# EAGLE library part SOCKETY_WP75XXX (library sierra wireless)
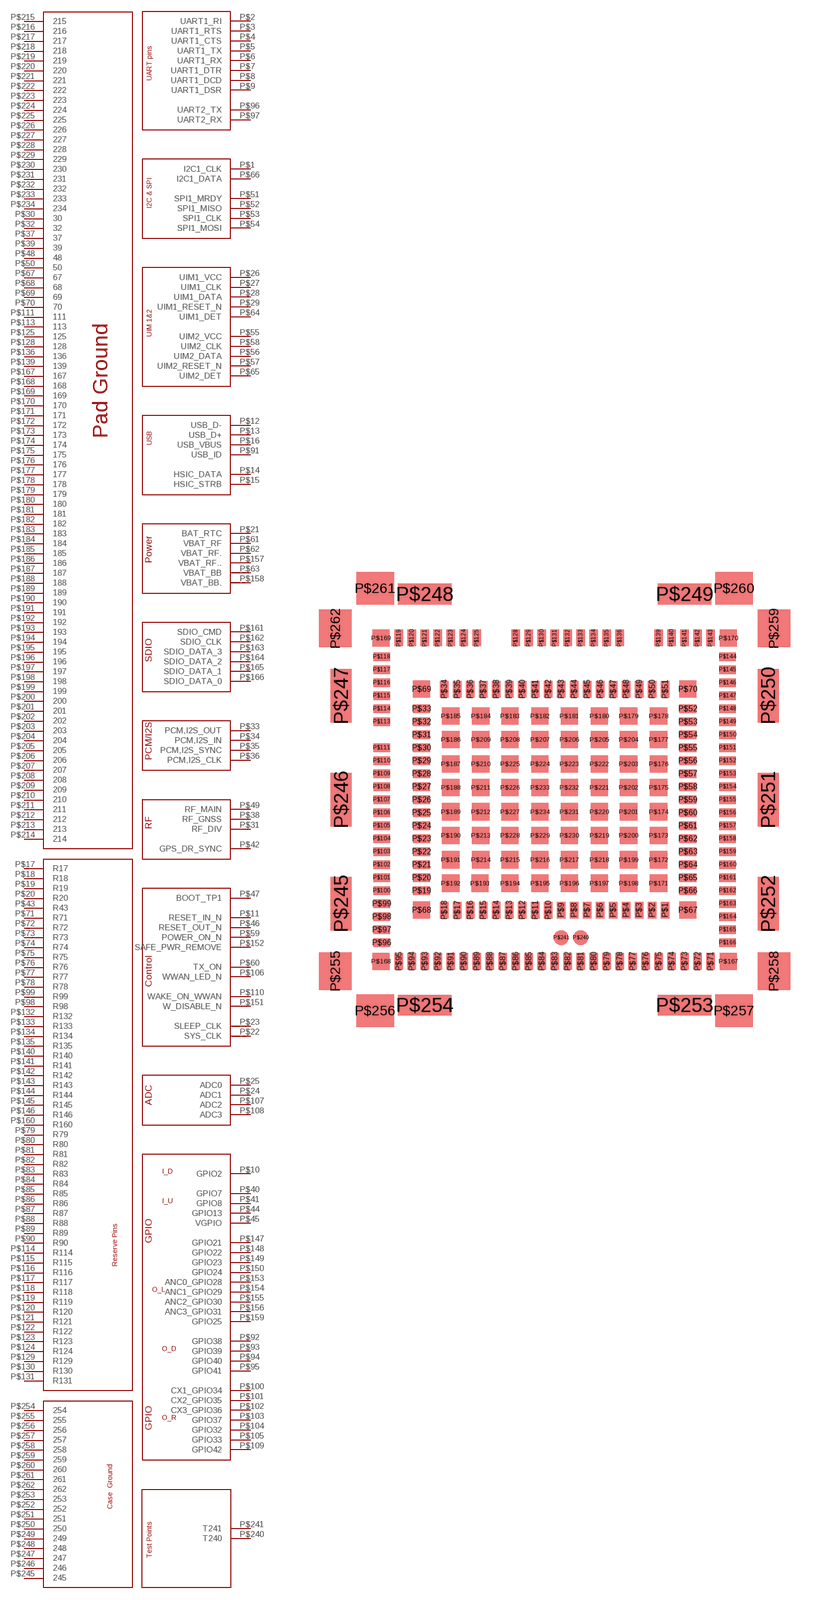
[diagram p0: symbol with the pads of SOCKET_WP75XX; footprint SOCKET_WP75XX]

Designator prefix -

## SOCKETY_WP75XXX  [SOCKET_WP75XX]
P$1  I2C1_CLK
P$2  UART1_RI
P$3  UART1_RTS
P$4  UART1_CTS
P$5  UART1_TX
P$6  UART1_RX
P$7  UART1_DTR
P$8  UART1_DCD
P$9  UART1_DSR
P$10  GPIO2
P$11  RESET_IN_N
P$12  USB_D-
P$13  USB_D+
P$14  HSIC_DATA
P$15  HSIC_STRB
P$16  USB_VBUS
P$17  R17
P$18  R18
P$19  R19
P$20  R20
P$21  BAT_RTC
P$22  SYS_CLK
P$23  SLEEP_CLK
P$24  ADC1
P$25  ADC0
P$26  UIM1_VCC
P$27  UIM1_CLK
P$28  UIM1_DATA
P$29  UIM1_RESET_N
P$30  30
P$31  RF_DIV
P$32  32
P$33  PCM,I2S_OUT
P$34  PCM,I2S_IN
P$35  PCM,I2S_SYNC
P$36  PCM,I2S_CLK
P$37  37
P$38  RF_GNSS
P$39  39
P$40  GPIO7
P$41  GPIO8
P$42  GPS_DR_SYNC
P$43  R43
P$44  GPIO13
P$45  VGPIO
P$46  RESET_OUT_N
P$47  BOOT_TP1
P$48  48
P$49  RF_MAIN
P$50  50
P$51  SPI1_MRDY
P$52  SPI1_MISO
P$53  SPI1_CLK
P$54  SPI1_MOSI
P$55  UIM2_VCC
P$56  UIM2_DATA
P$57  UIM2_RESET_N
P$58  UIM2_CLK
P$59  POWER_ON_N
P$60  TX_ON
P$61  VBAT_RF
P$62  VBAT_RF.
P$63  VBAT_BB
P$64  UIM1_DET
P$65  UIM2_DET
P$66  I2C1_DATA
P$67  67
P$68  68
P$69  69
P$70  70
P$71  R71
P$72  R72
P$73  R73
P$74  R74
P$75  R75
P$76  R76
P$77  R77
P$78  R78
P$79  R79
P$80  R80
P$81  R81
P$82  R82
P$83  R83
P$84  R84
P$85  R85
P$86  R86
P$87  R87
P$88  R88
P$89  R89
P$90  R90
P$91  USB_ID
P$92  GPIO38
P$93  GPIO39
P$94  GPIO40
P$95  GPIO41
P$96  UART2_TX
P$97  UART2_RX
P$98  R98
P$99  R99
P$100  CX1_GPIO34
P$101  CX2_GPIO35
P$102  CX3_GPIO36
P$103  GPIO37
P$104  GPIO32
P$105  GPIO33
P$106  WWAN_LED_N
P$107  ADC2
P$108  ADC3
P$109  GPIO42
P$110  WAKE_ON_WWAN
P$111  111
P$113  113
P$114  R114
P$115  R115
P$116  R116
P$117  R117
P$118  R118
P$119  R119
P$120  R120
P$121  R121
P$122  R122
P$123  R123
P$124  R124
P$125  125
P$128  128
P$129  R129
P$130  R130
P$131  R131
P$132  R132
P$133  R133
P$134  R134
P$135  R135
P$136  136
P$139  139
P$140  R140
P$141  R141
P$142  R142
P$143  R143
P$144  R144
P$145  R145
P$146  R146
P$147  GPIO21
P$148  GPIO22
P$149  GPIO23
P$150  GPIO24
P$151  W_DISABLE_N
P$152  SAFE_PWR_REMOVE
P$153  ANC0_GPIO28
P$154  ANC1_GPIO29
P$155  ANC2_GPIO30
P$156  ANC3_GPIO31
P$157  VBAT_RF..
P$158  VBAT_BB.
P$159  GPIO25
P$160  R160
P$161  SDIO_CMD
P$162  SDIO_CLK
P$163  SDIO_DATA_3
P$164  SDIO_DATA_2
P$165  SDIO_DATA_1
P$166  SDIO_DATA_0
P$167  167
P$168  168
P$169  169
P$170  170
P$171  171
P$172  172
P$173  173
P$174  174
P$175  175
P$176  176
P$177  177
P$178  178
P$179  179
P$180  180
P$181  181
P$182  182
P$183  183
P$184  184
P$185  185
P$186  186
P$187  187
P$188  188
P$189  189
P$190  190
P$191  191
P$192  192
P$193  193
P$194  194
P$195  195
P$196  196
P$197  197
P$198  198
P$199  199
P$200  200
P$201  201
P$202  202
P$203  203
P$204  204
P$205  205
P$206  206
P$207  207
P$208  208
P$209  209
P$210  210
P$211  211
P$212  212
P$213  213
P$214  214
P$215  215
P$216  216
P$217  217
P$218  218
P$219  219
P$220  220
P$221  221
P$222  222
P$223  223
P$224  224
P$225  225
P$226  226
P$227  227
P$228  228
P$229  229
P$230  230
P$231  231
P$232  232
P$233  233
P$234  234
P$240  T240
P$241  T241
P$245  245
P$246  246
P$247  247
P$248  248
P$249  249
P$250  250
P$251  251
P$252  252
P$253  253
P$254  254
P$255  255
P$256  256
P$257  257
P$258  258
P$259  259
P$260  260
P$261  261
P$262  262

## Footprint SOCKET_WP75XX (pad centres in mm)
smd 0.508 x 1.016: P$1 6.8,-6.8; P$2 6,-6.8; P$3 5.2,-6.8; P$4 4.4,-6.8; P$5 3.6,-6.8; P$6 2.8,-6.8; P$7 2,-6.8; P$8 1.2,-6.8; P$9 0.4,-6.8; P$10 -0.4,-6.8; P$11 -1.2,-6.8; P$12 -2,-6.8; P$13 -2.8,-6.8; P$14 -3.6,-6.8; P$15 -4.4,-6.8; P$16 -5.2,-6.8; P$17 -6,-6.8; P$18 -6.8,-6.8; P$34 -6.8,6.8; P$35 -6,6.8; P$36 -5.2,6.8; P$37 -4.4,6.8; P$38 -3.6,6.8; P$39 -2.8,6.8; P$40 -2,6.8; P$41 -1.2,6.8; P$42 -0.4,6.8; P$43 0.4,6.8; P$44 1.2,6.8; P$45 2,6.8; P$46 2.8,6.8; P$47 3.6,6.8; P$48 4.4,6.8; P$49 5.2,6.8; P$50 6,6.8; P$51 6.8,6.8; P$71 9.6,-9.95; P$72 8.8,-9.95; P$73 8,-9.95; P$74 7.2,-9.95; P$75 6.4,-9.95; P$76 5.6,-9.95; P$77 4.8,-9.95; P$78 4,-9.95; P$79 3.2,-9.95; P$80 2.4,-9.95; P$81 1.6,-9.95; P$82 0.8,-9.95; P$83 0,-9.95; P$84 -0.8,-9.95; P$85 -1.6,-9.95; P$86 -2.4,-9.95; P$87 -3.2,-9.95; P$88 -4,-9.95; P$89 -4.8,-9.95; P$90 -5.6,-9.95; P$91 -6.4,-9.95; P$92 -7.2,-9.95; P$93 -8,-9.95; P$94 -8.8,-9.95; P$95 -9.6,-9.95; P$119 -9.6,9.95; P$120 -8.8,9.95; P$121 -8,9.95; P$122 -7.2,9.95; P$123 -6.4,9.95; P$124 -5.6,9.95; P$125 -4.8,9.95; P$128 -2.4,9.95; P$129 -1.6,9.95; P$130 -0.8,9.95; P$131 0,9.95; P$132 0.8,9.95; P$133 1.6,9.95; P$134 2.4,9.95; P$135 3.2,9.95; P$136 4,9.95; P$139 6.4,9.95; P$140 7.2,9.95; P$141 8,9.95; P$142 8.8,9.95; P$143 9.6,9.95
smd 1.016 x 0.508: P$19 -8.2,-5.6; P$20 -8.2,-4.8; P$21 -8.2,-4; P$22 -8.2,-3.2; P$23 -8.2,-2.4; P$24 -8.2,-1.6; P$25 -8.2,-0.8; P$26 -8.2,0; P$27 -8.2,0.8; P$28 -8.2,1.6; P$29 -8.2,2.4; P$30 -8.2,3.2; P$31 -8.2,4; P$32 -8.2,4.8; P$33 -8.2,5.6; P$52 8.2,5.6; P$53 8.2,4.8; P$54 8.2,4; P$55 8.2,3.2; P$56 8.2,2.4; P$57 8.2,1.6; P$58 8.2,0.8; P$59 8.2,0; P$60 8.2,-0.8; P$61 8.2,-1.6; P$62 8.2,-2.4; P$63 8.2,-3.2; P$64 8.2,-4; P$65 8.2,-4.8; P$66 8.2,-5.6; P$96 -10.65,-8.8; P$97 -10.65,-8; P$98 -10.65,-7.2; P$99 -10.65,-6.4; P$100 -10.65,-5.6; P$101 -10.65,-4.8; P$102 -10.65,-4; P$103 -10.65,-3.2; P$104 -10.65,-2.4; P$105 -10.65,-1.6; P$106 -10.65,-0.8; P$107 -10.65,0; P$108 -10.65,0.8; P$109 -10.65,1.6; P$110 -10.65,2.4; P$111 -10.65,3.2; P$113 -10.65,4.8; P$114 -10.65,5.6; P$115 -10.65,6.4; P$116 -10.65,7.2; P$117 -10.65,8; P$118 -10.65,8.8; P$144 10.65,8.8; P$145 10.65,8; P$146 10.65,7.2; P$147 10.65,6.4; P$148 10.65,5.6; P$149 10.65,4.8; P$150 10.65,4; P$151 10.65,3.2; P$152 10.65,2.4; P$153 10.65,1.6; P$154 10.65,0.8; P$155 10.65,0; P$156 10.65,-0.8; P$157 10.65,-1.6; P$158 10.65,-2.4; P$159 10.65,-3.2; P$160 10.65,-4; P$161 10.65,-4.8; P$162 10.65,-5.6; P$163 10.65,-6.4; P$164 10.65,-7.2; P$165 10.65,-8; P$166 10.65,-8.8
smd 1.05 x 1.05: P$67 8.2,-6.8; P$68 -8.2,-6.8; P$69 -8.2,6.8; P$70 8.2,6.8; P$167 10.7,-9.95; P$168 -10.7,-9.95; P$169 -10.7,9.95; P$170 10.7,9.95
smd 1.06 x 1.06: P$171 6.4,-5.15; P$172 6.4,-3.7; P$173 6.4,-2.2; P$174 6.4,-0.75; P$175 6.4,0.75; P$176 6.4,2.2; P$177 6.4,3.7; P$178 6.4,5.15; P$179 4.55,5.15; P$180 2.75,5.15; P$181 0.9,5.15; P$182 -0.9,5.15; P$183 -2.75,5.15; P$184 -4.55,5.15; P$185 -6.4,5.15; P$186 -6.4,3.7; P$187 -6.4,2.2; P$188 -6.4,0.75; P$189 -6.4,-0.75; P$190 -6.4,-2.2; P$191 -6.4,-3.7; P$192 -6.4,-5.15; P$193 -4.6,-5.15; P$194 -2.75,-5.15; P$195 -0.9,-5.15; P$196 0.9,-5.15; P$197 2.75,-5.15; P$198 4.55,-5.15; P$199 4.55,-3.7; P$200 4.55,-2.2; P$201 4.55,-0.75; P$202 4.55,0.75; P$203 4.55,2.2; P$204 4.55,3.7; P$205 2.75,3.7; P$206 0.9,3.7; P$207 -0.9,3.7; P$208 -2.75,3.7; P$209 -4.55,3.7; P$210 -4.55,2.2; P$211 -4.55,0.75; P$212 -4.55,-0.75; P$213 -4.55,-2.2; P$214 -4.55,-3.7; P$215 -2.75,-3.7; P$216 -0.9,-3.7; P$217 0.9,-3.7; P$218 2.75,-3.7; P$219 2.75,-2.2; P$220 2.75,-0.75; P$221 2.75,0.75; P$222 2.75,2.2; P$223 0.9,2.2; P$224 -0.9,2.2; P$225 -2.75,2.2; P$226 -2.75,0.75; P$227 -2.75,-0.75; P$228 -2.75,-2.2; P$229 -0.9,-2.2; P$230 0.9,-2.2; P$231 0.9,-0.75; P$232 0.9,0.75; P$233 -0.9,0.75; P$234 -0.9,-0.75
smd 0.9 x 0.9: P$240 1.6,-8.5; P$241 0.4,-8.5
smd 1.27 x 3.3: P$245 -13.15,-6.4; P$246 -13.15,0; P$247 -13.15,6.4; P$250 13.15,6.4; P$251 13.15,0; P$252 13.15,-6.4
smd 3.3 x 1.27: P$248 -8,12.65; P$249 8,12.65; P$253 8,-12.65; P$254 -8,-12.65
smd 2 x 2.3: P$255 -13.5,-10.55; P$258 13.5,-10.55; P$259 13.5,10.55; P$262 -13.5,10.55
smd 2.3 x 2: P$256 -11.05,-13; P$257 11.05,-13; P$260 11.05,13; P$261 -11.05,13